# Altium footprint library CON-SMA-EDGE062.PcbLib: 1 footprints
Each footprint in its own frame and in the unit in brackets; x right, y up, seen from the top. Pads: shape width x height; smd on the part's side, far side on the other; paste and mask are expansions set on the pad; w line width, h text height; cw(c..) or ccw(c..) is an arc to the next point about the centre after c.
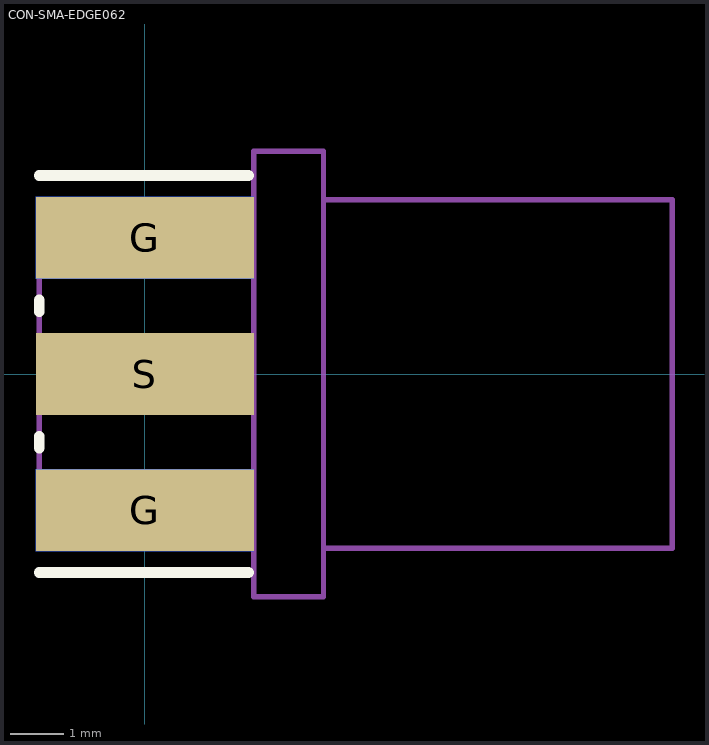
[diagram p0: the footprint, top view; thin cyan lines are the x and y axes]

## CON-SMA-EDGE062 [mil] "Connector, SMA Female Edge Mount for 0.062\" Thick Board, 5-Lead, Body Dia. 7.9mm"
height 188.19
pads (5):
  rect 160x60 smd: G(0,-100) G(0,100) S(0,0)
  rect 160x60 smd far side: G(0,-100) G(0,100)
Top Overlay:
  lines w7.87: -77.48,-145.75 76.06,-145.75 ; -77.48,-54.25 -77.48,-45.75 ; -77.48,45.75 -77.48,54.25 ; -77.48,145.75 76.06,145.75
Bottom Overlay:
  lines w7.87: -77.48,-145.75 76.06,-145.75 ; -77.48,-54.25 -77.48,-45.75 ; -77.48,45.75 -77.48,54.25 ; -77.48,145.75 76.06,145.75
Mechanical 13:
  lines w3.94: 80,-127.95 -77.48,-127.95 -77.48,127.95 80,127.95 ; 131.18,-127.95 387.09,-127.95 387.09,127.95 131.18,127.95 ; 80,-163.39 80,163.39 131.18,163.39 131.18,-163.39 80,-163.39
Mechanical 15:
  lines w3.94: -19.69,0 19.68,0 ; 0,-19.68 0,19.69
3D body: height 186.9, standoff -138.58, extent 80,-163.06 131.18,163.07
3D body: height 151.75, standoff -103.15, extent 131.18,-127.7 387.09,127.7
3D body: height 43.31, standoff 0, extent -77.46,-127.93 79.98,127.93
3D body: height 78.74, standoff 29.92, extent -77.46,-127.93 79.98,127.93